# Altium footprint library LED-TH_BD5.9-P2.54-RD_RED.PcbLib: 1 footprints
Each footprint in its own frame and in the unit in brackets; x right, y up, seen from the top. Pads: shape width x height; smd on the part's side, far side on the other; paste and mask are expansions set on the pad; w line width, h text height; cw(c..) or ccw(c..) is an arc to the next point about the centre after c.
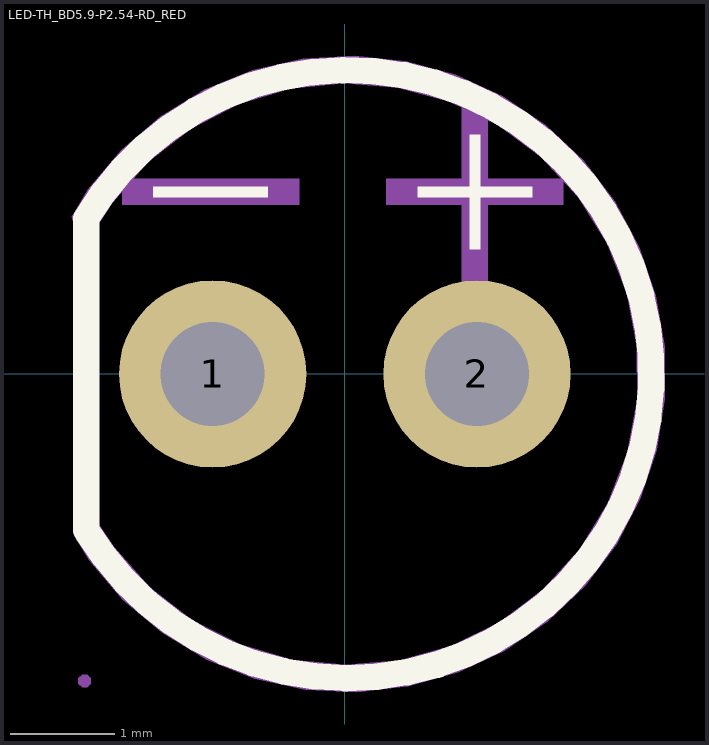
[diagram p0: the footprint, top view; thin cyan lines are the x and y axes]

## LED-TH_BD5.9-P2.54-RD_RED [mm]
pads (2):
  round 1.8 hole 1 paste+0 mask+0.05: 1(-1.27,0) 2(1.27,0)
Top Overlay:
  region: -1.84,1.8 -1.84,1.7 -0.74,1.7 -0.74,1.8
  region: 1.2,1.2 1.3,1.2 1.3,2.3 1.2,2.3
  region: 0.7,1.8 0.7,1.7 1.8,1.7 1.8,1.8
  lines w0.254: -2.484,-1.497 -2.484,1.487 ccw(c-2.491,1.487) -2.486,1.491 cw(c0.025,-0.001) -2.475,-1.512
Mechanical 6:
  region: -2.366,-1.447 -2.222,-1.662 -1.876,-2.049 -1.465,-2.365 -1.003,-2.6 -0.505,-2.745 0.011,-2.795 0.528,-2.75 1.027,-2.61 1.492,-2.38 1.906,-2.068 2.255,-1.684 2.528,-1.243 2.714,-0.76 2.808,-0.25 2.806,0.269 2.708,0.778 2.518,1.261 2.242,1.7 1.89,2.08 1.473,2.389 1.007,2.615 0.506,2.751 -0.01,2.793 -0.526,2.738 -1.023,2.589 -1.483,2.351 -1.892,2.032 -2.235,1.643 -2.377,1.426 -2.404,1.381 -2.506,1.355 -2.597,1.409 -2.623,1.511 -2.596,1.556 -2.469,1.769 -2.149,2.15 -1.773,2.473 -1.348,2.732 -0.888,2.918 -0.403,3.027 0.093,3.057 0.587,3.005 1.066,2.875 1.518,2.668 1.93,2.391 2.293,2.051 2.595,1.657 2.829,1.219 2.99,0.749 3.072,0.259 3.074,-0.238 2.996,-0.728 2.839,-1.2 2.608,-1.639 2.308,-2.036 1.949,-2.379 1.538,-2.659 1.088,-2.869 0.61,-3.003 0.116,-3.058 -0.38,-3.033 -0.865,-2.927 -1.327,-2.744 -1.753,-2.489 -2.133,-2.169 -2.455,-1.791 -2.584,-1.578 -2.611,-1.533 -2.586,-1.431 -2.496,-1.377 -2.394,-1.402 -2.366,-1.447
  region: 0.4,1.875 2.1,1.875 2.1,1.625 0.4,1.625
  region: -2.14,1.875 -0.44,1.875 -0.44,1.625 -2.14,1.625
  region: 1.126,0.88 1.126,2.58 1.376,2.58 1.376,0.88
Mechanical 15:
  region: 1.02,0.2 1.52,0.2 1.52,-0.2 1.02,-0.2
  region: -1.52,0.2 -1.02,0.2 -1.02,-0.2 -1.52,-0.2
  region: -2.44,-2.95 -2.44,-2.975 -2.475,-3.01 -2.525,-3.01 -2.56,-2.975 -2.56,-2.95 -2.56,-2.925 -2.525,-2.89 -2.475,-2.89 -2.44,-2.925 -2.44,-2.95
  lines w0.051: -2.5,-1.5 -1.878,-2.122 ccw(c0.177,-0.005) 0,-2.95 0.05,-2.95 ccw(c0,0) 2.95,0 ccw(c0,0) 0.05,2.95 0,2.95 ccw(c0.177,0.005) -1.878,2.122 -2.5,1.5 -2.5,-1.5